# EAGLE library part SN74HC02D (library SN74HC02D)
Quadruple 2-Input Positive-NOR Gates Source: Datasheet <http://www.ti.com/lit/ds/symlink/sn74hc02.pdf>
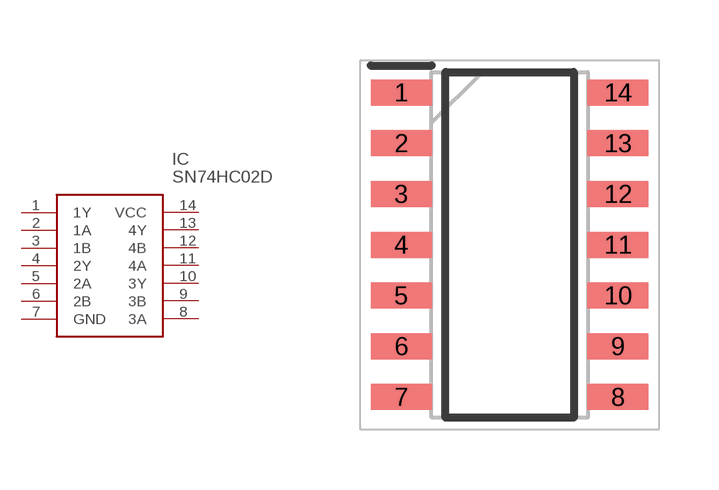
[diagram p0: symbol with the pads of SOIC127P600X175-14N; footprint SOIC127P600X175-14N]

Designator prefix IC

## SN74HC02D (Arrow_Part_Number: SN74HC02D; Arrow_Price-Stock: https://www.arrow.com/en/products/sn74hc02d/texas-instruments; Description: Quadruple 2-Input Positive-NOR Gates; Height: 1.75mm; Manufacturer_Name: Texas Instruments; Manufacturer_Part_Number: SN74HC02D; Mouser_Part_Number: 595-SN74HC02D; Mouser_Price-Stock: https://www.mouser.co.uk/ProductDetail/Texas-Instruments/SN74HC02D?qs=st7IWvlL5%2FhExkqByMBqzA%3D%3D)  [SOIC127P600X175-14N]
1  1Y
2  1A
3  1B
4  2Y
5  2A
6  2B
7  GND
8  3A
9  3B
10  3Y
11  4A
12  4B
13  4Y
14  VCC

## Footprint SOIC127P600X175-14N (pad centres in mm)
D (R-PDSO-G14)
smd 1.525 x 0.65: 1 -2.712,3.81; 2 -2.712,2.54; 3 -2.712,1.27; 4 -2.712,0; 5 -2.712,-1.27; 6 -2.712,-2.54; 7 -2.712,-3.81; 8 2.712,-3.81; 9 2.712,-2.54; 10 2.712,-1.27; 11 2.712,0; 12 2.712,1.27; 13 2.712,2.54; 14 2.712,3.81